# Altium footprint library PCB - LIGHT PIPE - VCC 7511A85.PCBLIB: 1 footprints
Each footprint in its own frame and in the unit in brackets; x right, y up, seen from the top. Pads: shape width x height; smd on the part's side, far side on the other; paste and mask are expansions set on the pad; w line width, h text height; cw(c..) or ccw(c..) is an arc to the next point about the centre after c.
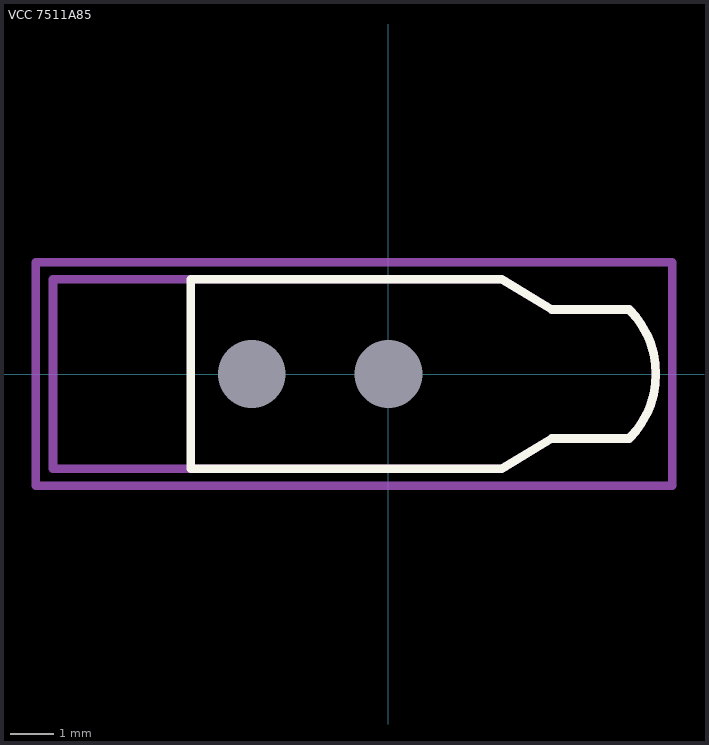
[diagram p0: the footprint, top view; thin cyan lines are the x and y axes]

## VCC 7511A85 [mil]
height 161
pads (2):
  rect 0x0 hole 62 unplated: M(-125,0) M(0,0)
Top Overlay:
  lines w7.87: -181.1,-86.61 -181.1,86.61 103.67,86.61 149.61,59.06 220.47,59.06 cw(c161.42,0) 220.47,-59.06 149.61,-59.06 103.67,-86.61 -181.1,-86.61
Mechanical 13:
  lines w7.87: -307.09,-86.61 -307.09,86.61 103.67,86.61 149.61,59.06 220.47,59.06 cw(c161.42,0) 220.47,-59.06 149.61,-59.06 103.67,-86.61 -307.09,-86.61
Mechanical 15:
  lines w7.87: -322.83,-102.36 -322.83,102.36 259.84,102.36 259.84,-102.36 -322.83,-102.36
3D body "VCC 7511A85.step": height 161, standoff -95, extent -306.02,-87.5 246.98,87.51